# Altium footprint library Octopart-CPL.PcbLib: 29 footprints (part 1 of 2)
Each footprint in its own frame and in the unit in brackets; x right, y up, seen from the top. Pads: shape width x height; smd on the part's side, far side on the other; paste and mask are expansions set on the pad; w line width, h text height; cw(c..) or ccw(c..) is an arc to the next point about the centre after c.
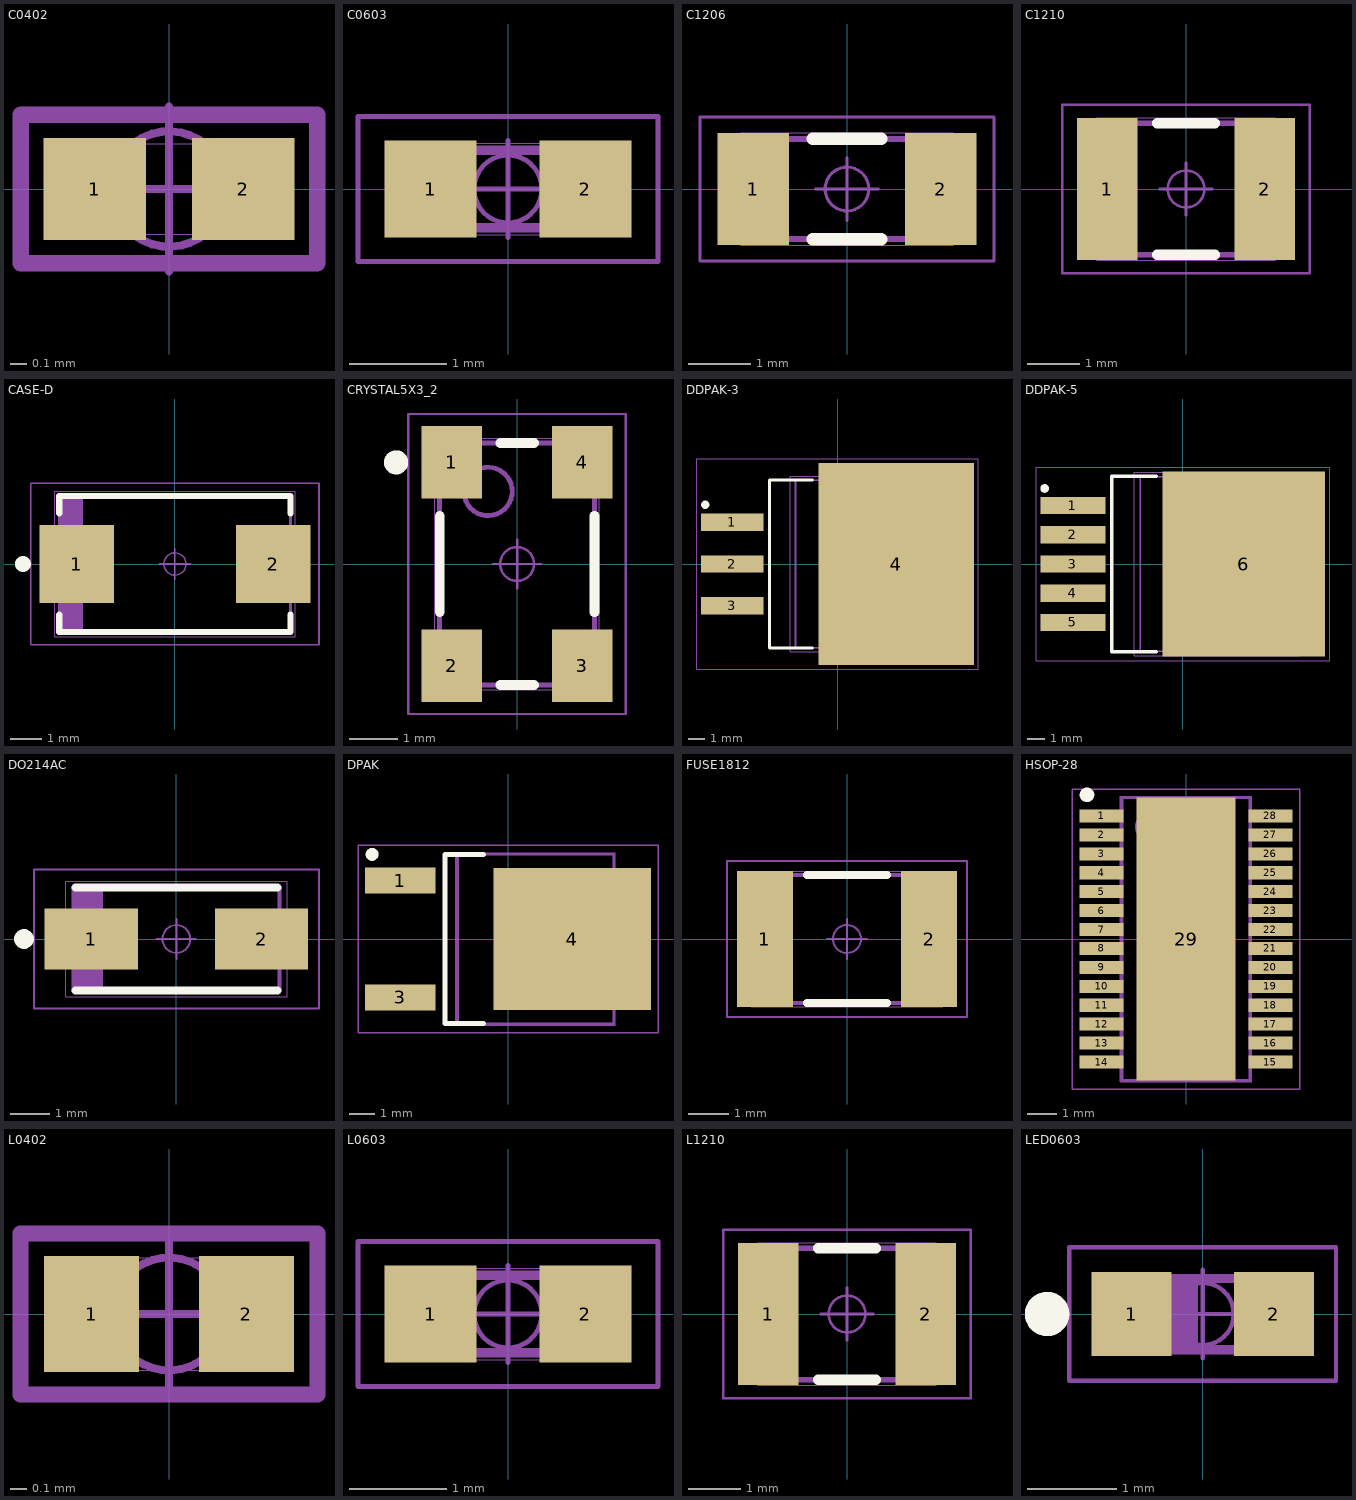
[diagram p0: the footprints below, top view; thin cyan lines are the x and y axes]

## C0402 [mm]
height 0.55
pads (2):
  rect 0.62x0.62 smd: 1(-0.45,0) 2(0.45,0)
Mechanical 15:
  lines w0.1: -0.9,-0.45 -0.9,0.45 0.9,0.45 0.9,-0.45 -0.9,-0.45
Mechanical 20:
  circle w0.05: c0,0 r0.35
  lines w0.05: -0.5,0 0.5,0 ; 0,-0.5 0,0.5 ; -0.91,-0.46 -0.91,0.46 0.91,0.46 0.91,-0.46 -0.91,-0.46
Mechanical 21:
  lines w0.001: -0.525,-0.275 -0.525,0.275 0.525,0.275 0.525,-0.275 -0.525,-0.275

## C0603 [mm]
height 0.9
pads (2):
  rect 0.95x1 smd: 1(-0.8,0) 2(0.8,0)
Mechanical 15:
  lines w0.1: -0.8,-0.4 -0.8,0.4 0.8,0.4 0.8,-0.4 -0.8,-0.4
Mechanical 20:
  circle w0.05: c0,0 r0.35
  lines w0.05: -0.5,0 0.5,0 ; 0,-0.5 0,0.5 ; -1.55,-0.75 -1.55,0.75 1.55,0.75 1.55,-0.75 -1.55,-0.75
Mechanical 21:
  lines w0.001: -0.875,-0.475 -0.875,0.475 0.875,0.475 0.875,-0.475 -0.875,-0.475

## C1206 [mm]
height 1.05
pads (2):
  rect 1.15x1.8 smd: 1(-1.5,0) 2(1.5,0)
Top Overlay:
  lines w0.2: -0.55,-0.8 0.55,-0.8 ; -0.55,0.8 0.55,0.8
Mechanical 15:
  lines w0.1: -1.6,-0.8 -1.6,0.8 1.6,0.8 1.6,-0.8 -1.6,-0.8
Mechanical 20:
  circle w0.05: c0,0 r0.35
  lines w0.05: -0.5,0 0.5,0 ; 0,-0.5 0,0.5 ; -2.35,-1.15 -2.35,1.15 2.35,1.15 2.35,-1.15 -2.35,-1.15
Mechanical 21:
  lines w0.001: -1.7,-0.9 -1.7,0.9 1.7,0.9 1.7,-0.9 -1.7,-0.9

## C1210 [mm]
height 1.1
pads (2):
  rect 1.15x2.7 smd: 1(-1.5,0) 2(1.5,0)
Top Overlay:
  lines w0.2: -0.55,-1.25 0.55,-1.25 ; -0.55,1.25 0.55,1.25
Mechanical 15:
  lines w0.1: -1.6,-1.25 -1.6,1.25 1.6,1.25 1.6,-1.25 -1.6,-1.25
Mechanical 20:
  circle w0.05: c0,0 r0.35
  lines w0.05: -0.5,0 0.5,0 ; 0,-0.5 0,0.5 ; -2.35,-1.6 -2.35,1.6 2.35,1.6 2.35,-1.6 -2.35,-1.6
Mechanical 21:
  lines w0.001: -1.7,-1.35 -1.7,1.35 1.7,1.35 1.7,-1.35 -1.7,-1.35

## CASE-D [mm]
pads (2):
  rect 2.35x2.45 smd: 1(-3.1,0) 2(3.1,0)
Top Overlay:
  circle w0.25: c-4.8,0 r0.125
  lines w0.2: -3.65,-1.6 -3.65,-2.15 3.65,-2.15 3.65,-1.6 ; -3.65,1.6 -3.65,2.15 3.65,2.15 3.65,1.6
Mechanical 15:
  lines w0.1: -3.55,-2.15 -3.55,2.15 ; -3.45,-2.15 -3.45,2.15 ; -3.35,-2.15 -3.35,2.15 ; -3.25,-2.15 -3.25,2.15 ; -3.15,-2.15 -3.15,2.15 ; -3.05,-2.15 -3.05,2.15 ; -2.95,-2.15 -2.95,2.15 ; -3.65,-2.15 -3.65,2.15 3.65,2.15 3.65,-2.15 -3.65,-2.15
Mechanical 20:
  circle w0.05: c0,0 r0.35
  lines w0.05: -0.5,0 0.5,0 ; 0,-0.5 0,0.5 ; -4.55,-2.55 -4.55,2.55 4.55,2.55 4.55,-2.55 -4.55,-2.55
Mechanical 21:
  lines w0.001: -3.8,-2.3 -3.8,2.3 3.8,2.3 3.8,-2.3 -3.8,-2.3

## CRYSTAL5X3_2 [mm]
pads (4):
  rect 1.25x1.5 smd: 1(-1.35,2.1) 2(-1.35,-2.1) 3(1.35,-2.1) 4(1.35,2.1)
Top Overlay:
  circle w0.25: c-2.5,2.1 r0.125
  lines w0.2: -1.6,-1 -1.6,1 ; -0.35,-2.5 0.35,-2.5 ; -0.35,2.5 0.35,2.5 ; 1.6,-1 1.6,1
Mechanical 15:
  circle w0.1: c-0.6,1.5 r0.5
  lines w0.1: -1.6,-2.5 -1.6,2.5 1.6,2.5 1.6,-2.5 -1.6,-2.5
Mechanical 20:
  circle w0.05: c0,0 r0.35
  lines w0.05: -0.5,0 0.5,0 ; 0,-0.5 0,0.5 ; -2.25,-3.1 -2.25,3.1 2.25,3.1 2.25,-3.1 -2.25,-3.1
Mechanical 21:
  lines w0.001: -1.7,-2.6 -1.7,2.6 1.7,2.6 1.7,-2.6 -1.7,-2.6

## DDPAK-3 [mm]
pads (4):
  rect 3.8x1.05 smd: 1(-6.4,2.54) 2(-6.4,0) 3(-6.4,-2.54)
  rect 9.45x12.25 smd: 4(3.55,0)
Top Overlay:
  circle w0.25: c-8.05,3.6 r0.125
  lines w0.2: -1.55,-5.1 -4.15,-5.1 -4.15,5.1 -1.55,5.1
Top Paste:
  region: 5.45,3.81 7.29,3.81 7.29,5.47 5.45,5.47
  region: 2.63,3.81 4.47,3.81 4.47,5.47 2.63,5.47
  region: -0.19,3.81 1.65,3.81 1.65,5.47 -0.19,5.47
  region: 5.45,1.49 7.29,1.49 7.29,3.15 5.45,3.15
  region: 2.63,1.49 4.47,1.49 4.47,3.15 2.63,3.15
  region: -0.19,1.49 1.65,1.49 1.65,3.15 -0.19,3.15
  region: 5.45,-0.83 7.29,-0.83 7.29,0.83 5.45,0.83
  region: 2.63,-0.83 4.47,-0.83 4.47,0.83 2.63,0.83
  region: -0.19,-0.83 1.65,-0.83 1.65,0.83 -0.19,0.83
  region: 5.45,-3.15 7.29,-3.15 7.29,-1.49 5.45,-1.49
  region: 2.63,-3.15 4.47,-3.15 4.47,-1.49 2.63,-1.49
  region: -0.19,-3.15 1.65,-3.15 1.65,-1.49 -0.19,-1.49
  region: 5.45,-5.47 7.29,-5.47 7.29,-3.81 5.45,-3.81
  region: 2.63,-5.47 4.47,-5.47 4.47,-3.81 2.63,-3.81
  region: -0.19,-5.47 1.65,-5.47 1.65,-3.81 -0.19,-3.81
Mechanical 15:
  lines w0.1: 6.45,-5.46 6.836,-5.46 7.62,-4.591 7.62,4.591 6.836,5.46 6.45,5.46 ; -2.565,-5.08 -2.565,5.08 6.45,5.08 6.45,-5.08 -2.565,-5.08
Mechanical 20:
  circle w0.05: c0,0 r0.35
  lines w0.05: -0.5,0 0.5,0 ; 0,-0.5 0,0.5 ; -8.55,-6.4 -8.55,6.4 8.55,6.4 8.55,-6.4 -8.55,-6.4
Mechanical 21:
  lines w0.001: -2.883,-5.335 -2.883,5.335 6.768,5.335 6.768,-5.335 -2.883,-5.335

## DDPAK-5 [mm]
pads (6):
  rect 3.8x1 smd: 1(-6.4,3.4) 2(-6.4,1.7) 3(-6.4,0) 4(-6.4,-1.7) 5(-6.4,-3.4)
  rect 9.45x10.75 smd: 6(3.55,0)
Top Overlay:
  circle w0.25: c-8.05,4.4 r0.125
  lines w0.2: -1.55,-5.1 -4.15,-5.1 -4.15,5.1 -1.55,5.1
Top Paste:
  region: 5.43,2.87 7.35,2.87 7.35,4.63 5.43,4.63
  region: 2.59,2.87 4.51,2.87 4.51,4.63 2.59,4.63
  region: -0.25,2.87 1.67,2.87 1.67,4.63 -0.25,4.63
  region: 5.43,0.37 7.35,0.37 7.35,2.13 5.43,2.13
  region: 2.59,0.37 4.51,0.37 4.51,2.13 2.59,2.13
  region: -0.25,0.37 1.67,0.37 1.67,2.13 -0.25,2.13
  region: 5.43,-2.13 7.35,-2.13 7.35,-0.37 5.43,-0.37
  region: 2.59,-2.13 4.51,-2.13 4.51,-0.37 2.59,-0.37
  region: -0.25,-2.13 1.67,-2.13 1.67,-0.37 -0.25,-0.37
  region: 5.43,-4.63 7.35,-4.63 7.35,-2.87 5.43,-2.87
  region: 2.59,-4.63 4.51,-4.63 4.51,-2.87 2.59,-2.87
  region: -0.25,-4.63 1.67,-4.63 1.67,-2.87 -0.25,-2.87
Mechanical 15:
  lines w0.1: 6.45,-5.08 6.836,-5.08 7.62,-4.211 7.62,4.211 6.836,5.08 6.45,5.08 ; 6.45,-5.08 6.45,5.08 ; 6.45,-5.08 -2.475,-5.08 -2.475,5.08 6.45,5.08
Mechanical 20:
  circle w0.05: c0,0 r0.35
  lines w0.05: -0.5,0 0.5,0 ; 0,-0.5 0,0.5 ; -8.55,-5.65 -8.55,5.65 8.55,5.65 8.55,-5.65 -8.55,-5.65
Mechanical 21:
  lines w0.001: -2.838,-5.335 -2.838,5.335 6.812,5.335 6.812,-5.335 -2.838,-5.335

## DO214AC [mm]
pads (2):
  rect 2.35x1.55 smd: 1(-2.15,0) 2(2.15,0)
Top Overlay:
  circle w0.25: c-3.85,0 r0.125
  lines w0.2: -2.55,-1.3 2.55,-1.3 ; -2.55,1.3 2.55,1.3
Mechanical 15:
  lines w0.1: -2.498,-1.302 -2.498,1.302 ; -2.398,-1.302 -2.398,1.302 ; -2.298,-1.302 -2.298,1.302 ; -2.198,-1.302 -2.198,1.302 ; -2.098,-1.302 -2.098,1.302 ; -1.998,-1.302 -1.998,1.302 ; -1.898,-1.302 -1.898,1.302 ; -2.598,-1.302 -2.598,1.302 2.598,1.302 2.598,-1.302 -2.598,-1.302
Mechanical 20:
  circle w0.05: c0,0 r0.35
  lines w0.05: -0.5,0 0.5,0 ; 0,-0.5 0,0.5 ; -3.6,-1.75 -3.6,1.75 3.6,1.75 3.6,-1.75 -3.6,-1.75
Mechanical 21:
  lines w0.001: -2.795,-1.46 -2.795,1.46 2.795,1.46 2.795,-1.46 -2.795,-1.46

## DPAK [mm]
pads (3):
  rect 2.75x1 smd: 1(-4.2,2.28) 3(-4.2,-2.28)
  rect 6.15x5.55 smd: 4(2.5,0)
Top Overlay:
  circle w0.25: c-5.3,3.3 r0.125
  lines w0.2: -0.95,-3.3 -2.45,-3.3 -2.45,3.3 -0.95,3.3
Top Paste:
  region: 0.14,-2.06 2.14,-2.06 2.14,-0.36 0.14,-0.36
  region: 2.86,-2.06 4.86,-2.06 4.86,-0.36 2.86,-0.36
  region: 0.14,0.36 2.14,0.36 2.14,2.06 0.14,2.06
  region: 2.86,0.36 4.86,0.36 4.86,2.06 2.86,2.06
Mechanical 15:
  lines w0.1: 4.125,-2.668 4.419,-2.668 5.015,-2.006 5.015,2.006 4.419,2.668 4.125,2.668 ; -1.97,-3.302 4.125,-3.302 4.125,3.302 -1.97,3.302 -1.97,-3.302
Mechanical 20:
  circle w0.05: c0,0 r0.35
  lines w0.05: -0.5,0 0.5,0 ; 0,-0.5 0,0.5 ; -5.85,-3.65 5.85,-3.65 5.85,3.65 -5.85,3.65 -5.85,-3.65
Mechanical 21:
  lines w0.001: -2.032,-3.365 4.188,-3.365 4.188,3.365 -2.032,3.365 -2.032,-3.365

## FUSE1812 [mm]
pads (2):
  rect 1.4x3.4 smd: 1(-2.05,0) 2(2.05,0)
Top Overlay:
  lines w0.2: -1,-1.6 1,-1.6 ; -1,1.6 1,1.6
Mechanical 15:
  lines w0.1: -2.25,-1.6 -2.25,1.6 2.25,1.6 2.25,-1.6 -2.25,-1.6
Mechanical 20:
  circle w0.05: c0,0 r0.35
  lines w0.05: -0.5,0 0.5,0 ; 0,-0.5 0,0.5 ; -3,-1.95 -3,1.95 3,1.95 3,-1.95 -3,-1.95
Mechanical 21:
  lines w0.001: -2.4,-1.7 -2.4,1.7 2.4,1.7 2.4,-1.7 -2.4,-1.7

## HSOP-28 [mm]
pads (29):
  rect 1.5x0.45 smd: 1(-2.9,4.225) 2(-2.9,3.575) 3(-2.9,2.925) 4(-2.9,2.275) 5(-2.9,1.625) 6(-2.9,0.975) 7(-2.9,0.325) 8(-2.9,-0.325) 9(-2.9,-0.975) 10(-2.9,-1.625) 11(-2.9,-2.275) 12(-2.9,-2.925) 13(-2.9,-3.575) 14(-2.9,-4.225) 15(2.9,-4.225) 16(2.9,-3.575) 17(2.9,-2.925) 18(2.9,-2.275) 19(2.9,-1.625) 20(2.9,-0.975) 21(2.9,-0.325) 22(2.9,0.325) 23(2.9,0.975) 24(2.9,1.625) 25(2.9,2.275) 26(2.9,2.925) 27(2.9,3.575) 28(2.9,4.225)
  rect 3.4x9.7 smd: 29(0,0)
Top Overlay:
  circle w0.25: c-3.4,4.95 r0.125
Top Paste:
  region: -0.83,2.49 0.83,2.49 0.83,4.47 -0.83,4.47
  region: -0.83,0.17 0.83,0.17 0.83,2.15 -0.83,2.15
  region: -0.83,-2.15 0.83,-2.15 0.83,-0.17 -0.83,-0.17
  region: -0.83,-4.47 0.83,-4.47 0.83,-2.49 -0.83,-2.49
Mechanical 15:
  circle w0.1: c-1.2,3.85 r0.5
  lines w0.1: -2.2,-4.85 -2.2,4.85 2.2,4.85 2.2,-4.85 -2.2,-4.85
Mechanical 20:
  circle w0.05: c0,0 r0.35
  lines w0.05: -0.5,0 0.5,0 ; 0,-0.5 0,0.5 ; -3.9,-5.15 -3.9,5.15 3.9,5.15 3.9,-5.15 -3.9,-5.15
Mechanical 21:
  lines w0.001: -2.25,-4.9 -2.25,4.9 2.25,4.9 2.25,-4.9 -2.25,-4.9

## L0402 [mm]
height 0.6
pads (2):
  rect 0.59x0.72 smd: 1(-0.48,0) 2(0.48,0)
Mechanical 15:
  lines w0.1: -0.92,-0.5 -0.92,0.5 0.92,0.5 0.92,-0.5 -0.92,-0.5
Mechanical 20:
  circle w0.05: c0,0 r0.35
  lines w0.05: -0.5,0 0.5,0 ; 0,-0.5 0,0.5 ; -0.93,-0.51 -0.93,0.51 0.93,0.51 0.93,-0.51 -0.93,-0.51
Mechanical 21:
  lines w0.001: -0.55,-0.35 -0.55,0.35 0.55,0.35 0.55,-0.35 -0.55,-0.35

## L0603 [mm]
height 0.95
pads (2):
  rect 0.95x1 smd: 1(-0.8,0) 2(0.8,0)
Mechanical 15:
  lines w0.1: -0.8,-0.4 -0.8,0.4 0.8,0.4 0.8,-0.4 -0.8,-0.4
Mechanical 20:
  circle w0.05: c0,0 r0.35
  lines w0.05: -0.5,0 0.5,0 ; 0,-0.5 0,0.5 ; -1.55,-0.75 -1.55,0.75 1.55,0.75 1.55,-0.75 -1.55,-0.75
Mechanical 21:
  lines w0.001: -0.875,-0.475 -0.875,0.475 0.875,0.475 0.875,-0.475 -0.875,-0.475

## L1210 [mm]
height 1.35
pads (2):
  rect 1.15x2.7 smd: 1(-1.5,0) 2(1.5,0)
Top Overlay:
  lines w0.2: -0.55,-1.25 0.55,-1.25 ; -0.55,1.25 0.55,1.25
Mechanical 15:
  lines w0.1: -1.6,-1.25 -1.6,1.25 1.6,1.25 1.6,-1.25 -1.6,-1.25
Mechanical 20:
  circle w0.05: c0,0 r0.35
  lines w0.05: -0.5,0 0.5,0 ; 0,-0.5 0,0.5 ; -2.35,-1.6 -2.35,1.6 2.35,1.6 2.35,-1.6 -2.35,-1.6
Mechanical 21:
  lines w0.001: -1.7,-1.35 -1.7,1.35 1.7,1.35 1.7,-1.35 -1.7,-1.35

## LED0603 [mm]
height 0.6
pads (2):
  rect 0.9x0.95 smd: 1(-0.8,0) 2(0.8,0)
Top Overlay:
  circle w0.25: c-1.75,0 r0.125
Mechanical 15:
  lines w0.1: -0.7,-0.4 -0.7,0.4 ; -0.6,-0.4 -0.6,0.4 ; -0.5,-0.4 -0.5,0.4 ; -0.4,-0.4 -0.4,0.4 ; -0.3,-0.4 -0.3,0.4 ; -0.2,-0.4 -0.2,0.4 ; -0.1,-0.4 -0.1,0.4 ; -0.8,-0.4 -0.8,0.4 0.8,0.4 0.8,-0.4 -0.8,-0.4
Mechanical 20:
  circle w0.05: c0,0 r0.35
  lines w0.05: -0.5,0 0.5,0 ; 0,-0.5 0,0.5 ; -1.5,-0.75 -1.5,0.75 1.5,0.75 1.5,-0.75 -1.5,-0.75
Mechanical 21:
  lines w0.001: -0.9,-0.45 -0.9,0.45 0.9,0.45 0.9,-0.45 -0.9,-0.45